# EAGLE library part CC1120_RHM_32 (library CC11x)
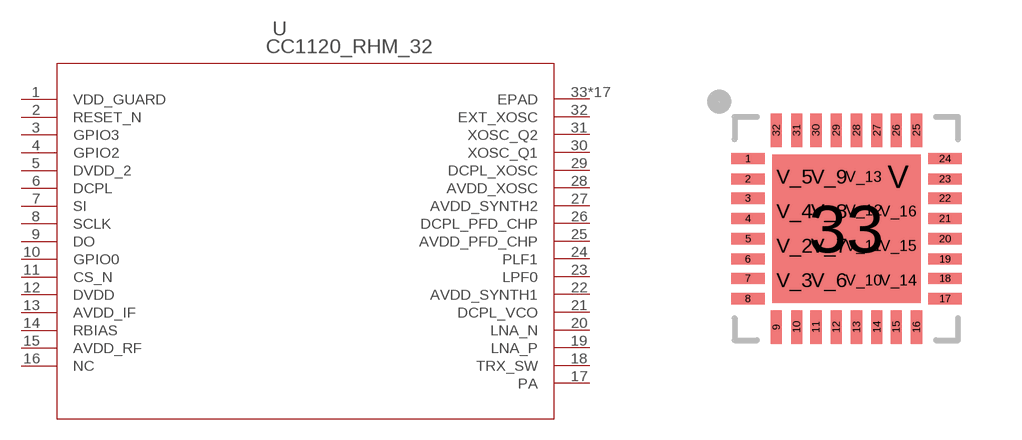
[diagram p1: symbol with the pads of RHM32_3P7X3P7; footprint RHM32_3P7X3P7]

Designator prefix U

## CC1120_RHM_32 (DATASHEETURL: http://www.ti.com/lit/gpn/CC1120; DESCRIPTION: High Performance RF Transceiver for Narrowband Systems; FAMILY_NAME: SUB-1 GHZ; GENERIC_PART_NUMBER: CC1120; INDUSTRY_STD_PKG_TYPE: QFN; MANUFACTURER: Texas Instruments; PACKAGE_DESIGNATOR: RHM; PIN_COUNT: 32)  [RHM32_3P7X3P7]
1  VDD_GUARD  pwr
2  RESET_N  in
3  GPIO3
4  GPIO2
5  DVDD_2  pwr
6  DCPL  pwr
7  SI  in
8  SCLK  in
9  DO
10  GPIO0
11  CS_N  in
12  DVDD  pwr
13  AVDD_IF  pwr
14  RBIAS  pas
15  AVDD_RF  pwr
16  NC  nc
17  PA  pas
18  TRX_SW  pas
19  LNA_P  pas
20  LNA_N  pas
21  DCPL_VCO  pwr
22  AVDD_SYNTH1  pwr
23  LPF0  pas
24  PLF1  pas
25  AVDD_PFD_CHP  pwr
26  DCPL_PFD_CHP  pwr
27  AVDD_SYNTH2  pwr
28  AVDD_XOSC  pwr
29  DCPL_XOSC  pwr
30  XOSC_Q1  pas
31  XOSC_Q2  pas
32  EXT_XOSC  in
33  EPAD  pwr
V  EPAD  pwr
V_2  EPAD  pwr
V_3  EPAD  pwr
V_4  EPAD  pwr
V_5  EPAD  pwr
V_6  EPAD  pwr
V_7  EPAD  pwr
V_8  EPAD  pwr
V_9  EPAD  pwr
V_10  EPAD  pwr
V_11  EPAD  pwr
V_12  EPAD  pwr
V_13  EPAD  pwr
V_14  EPAD  pwr
V_15  EPAD  pwr
V_16  EPAD  pwr

## Footprint RHM32_3P7X3P7 (pad centres in mm)
smd 0.838 x 0.279: 1 -2.464,1.753; 2 -2.464,1.245; 3 -2.464,0.762; 4 -2.464,0.254; 5 -2.464,-0.254; 6 -2.464,-0.762; 7 -2.464,-1.245; 8 -2.464,-1.753; 17 2.464,-1.753; 18 2.464,-1.245; 19 2.464,-0.762; 20 2.464,-0.254; 21 2.464,0.254; 22 2.464,0.762; 23 2.464,1.245; 24 2.464,1.753
smd 0.279 x 0.838: 9 -1.753,-2.464; 10 -1.245,-2.464; 11 -0.762,-2.464; 12 -0.254,-2.464; 13 0.254,-2.464; 14 0.762,-2.464; 15 1.245,-2.464; 16 1.753,-2.464; 25 1.753,2.464; 26 1.245,2.464; 27 0.762,2.464; 28 0.254,2.464; 29 -0.254,2.464; 30 -0.762,2.464; 31 -1.245,2.464; 32 -1.753,2.464
smd 3.708 x 3.708: 33 0,0
drill 0.305: V 1.295,1.295; V_2 -1.295,-0.432; V_3 -1.295,-1.295; V_4 -1.295,0.432; V_5 -1.295,1.295; V_6 -0.432,-1.295; V_7 -0.432,-0.432; V_8 -0.432,0.432; V_9 -0.432,1.295; V_10 0.432,-1.295; V_11 0.432,-0.432; V_12 0.432,0.457; V_13 0.432,1.295; V_14 1.295,-1.295; V_15 1.295,-0.432; V_16 1.295,0.432